# Altium footprint library BK-18650-PC8.PcbLib: 1 footprints
Each footprint in its own frame and in the unit in brackets; x right, y up, seen from the top. Pads: shape width x height; smd on the part's side, far side on the other; paste and mask are expansions set on the pad; w line width, h text height; cw(c..) or ccw(c..) is an arc to the next point about the centre after c.
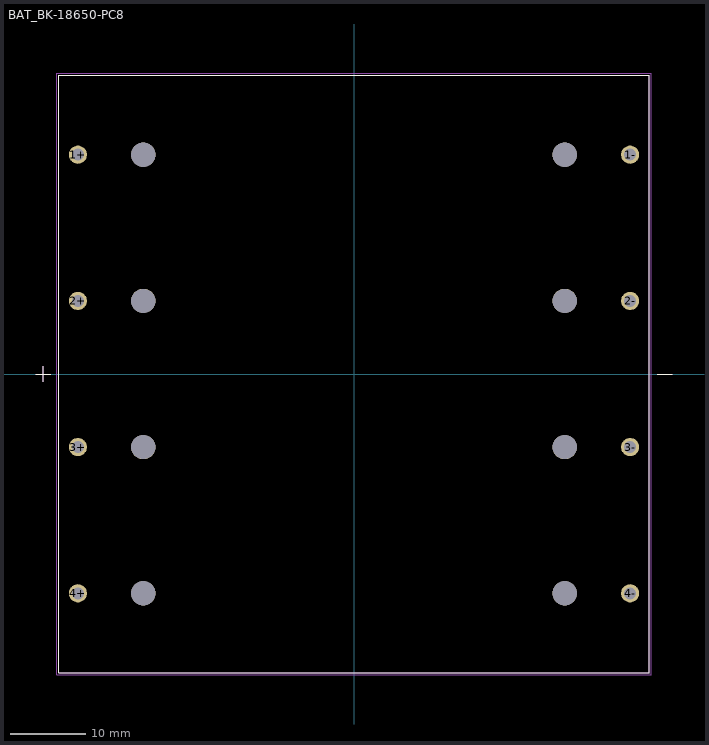
[diagram p0: the footprint, top view; thin cyan lines are the x and y axes]

## BAT_BK-18650-PC8 [mm]
pads (16):
  round 2.4 hole 1.6: 1+(-36.45,28.95) 1-(36.45,28.95) 2+(-36.45,9.65) 2-(36.45,9.65) 3+(-36.45,-9.65) 3-(36.45,-9.65) 4+(-36.45,-28.95) 4-(36.45,-28.95)
  round 3.2 hole 3.2 unplated: ""(-27.805,-28.955) ""(-27.805,-9.65) ""(-27.805,9.65) ""(-27.805,28.955) ""(27.805,-28.955) ""(27.805,-9.65) ""(27.805,9.65) ""(27.805,28.955)
Top Overlay:
  lines w0.127: -42,0 -40,0 ; -41,-1 -41,1 ; 40,0 42,0 ; -38.99,-39.42 38.99,-39.42 38.99,39.42 -38.99,39.42 -38.99,-39.42
Mechanical 13:
  lines w0.127: -42,0 -40,0 ; -41,-1 -41,1 ; 40,0 42,0 ; -38.99,-39.42 38.99,-39.42 38.99,39.42 -38.99,39.42 -38.99,-39.42
Mechanical 15:
  lines w0.05: -39.24,-39.67 39.24,-39.67 39.24,39.67 -39.24,39.67 -39.24,-39.67